# EAGLE library part LTC6409 (library mylibrary)
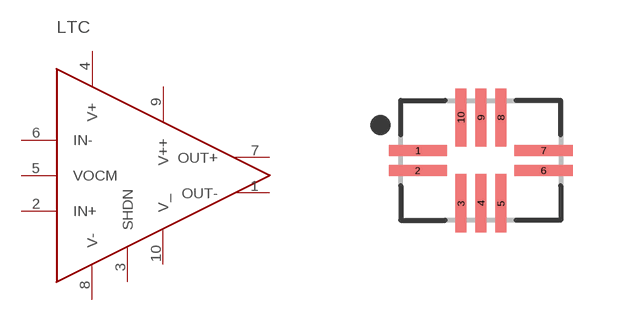
[diagram p2: symbol with the pads of QFN50P350X250X80-10; footprint QFN50P350X250X80-10]

Designator prefix LTC

## LTC6409N  [QFN50P350X250X80-10]
1  OUT-
2  IN+
3  SHDN
4  V+
5  VOCM
6  IN-
7  OUT+
8  V-
9  V++
10  V_

## Footprint QFN50P350X250X80-10 (pad centres in mm)
10-QFN, 0.5 mm pitch, 2.5 X 3.5 X 0.8 mm body 10-pin QFN package with 0.5 mm pitch with body size 2.5 X 3.5 X 0.8 mm
smd 1.459 x 0.27: 1 -1.574,0.25; 2 -1.574,-0.25; 6 1.574,-0.25; 7 1.574,0.25
smd 0.27 x 1.459: 3 -0.5,-1.074; 4 0,-1.074; 5 0.5,-1.074; 8 0.5,1.074; 9 0,1.074; 10 -0.5,1.074